# Altium schematic symbol library HDR1X6X1.SchLib: 1 symbol
Pins are listed as number, name and electrical type; pins without a type are passive.

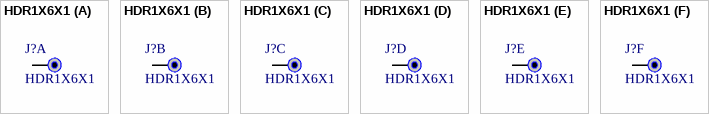
[diagram p0: symbol HDR1X6X1]

## HDR1X6X1
designator J?
footprint HDR1X6 (Footprint not found)
part A pins: 1
part B pins: 2
part C pins: 3
part D pins: 4
part E pins: 5
part F pins: 6